# EAGLE library part 638307222006 (library Wurth_Connectors_WR-FAST)
WR-FAST 7.62 mm THT Male Header Vertical Blade 2863 KIND PROPERTIES Pitch 7.62 mm Gender Male MATERIAL PROPERTIES Insulator Material PC Insulator Flammability Rating UL94 V-0 Insulator Color Black Contact Material Steel Contact Plating Tin Contact Type Stamped GENERAL INFORMATION Operating Temperature -30 up to +120 °C Working Voltage 300 V (AC) Withstanding Voltage 1600 V (AC) Contact Resistance 20 mΩ RISO 5 MΩ IR 16 A CERTIFICATION cULus Approval E150931 PACKAGING PROPERTIES Packaging Box <https://www.we-online.com/catalog/media/o161722v209%20Family_WR-FAST_638307222005.jpg> Details see: https://www.we-online.com/catalog/en/FAST_7_6_2_THT_MALE_VERTICAL_6383072220XX/ Udpated by Ella Wu 2020-08-11 2020(C) Wurth Elektronik
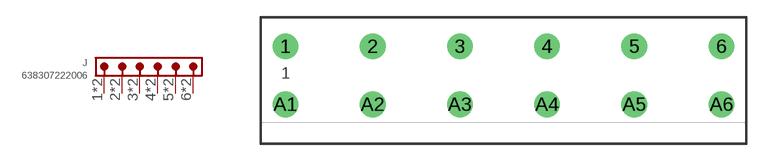
[diagram p15: symbol with the pads of 638307222006; footprint 638307222006]

Designator prefix J

## 638307222006 (CONTACT-RESISTANCE: 20mOhm; DATASHEET-URL: https://www.we-online.com/catalog/datasheet/638307222006.pdf; GENDER: Male; IR: 16A; MOUNT: THT; PART-NUMBER: 638307222006; PINS: 6; PITCH: 7.62mm; TYPE: Vertical; VALUE: 638307222006; WORKING-VOLTAGE: 300V(AC))  [638307222006]
1  1  pas
2  2  pas
3  3  pas
4  4  pas
5  5  pas
6  6  pas
A1  1  pas
A2  2  pas
A3  3  pas
A4  4  pas
A5  5  pas
A6  6  pas

## Footprint 638307222006 (pad centres in mm)
WR-FAST 7.62 mm THT Male Header Vertical Blade 2863 6pins
drill 1.5: 1 -19.05,2.54; 2 -11.43,2.54; 3 -3.81,2.54; 4 3.81,2.54; 5 11.43,2.54; 6 19.05,2.54; A1 -19.05,-2.54; A2 -11.43,-2.54; A3 -3.81,-2.54; A4 3.81,-2.54; A5 11.43,-2.54; A6 19.05,-2.54